# EAGLE library part NRF24L01P-R7 (library NRF24L01P-R7)
NORDIC SEMICONDUCTOR - NRF24L01P-R7 - RF TRANSCEIVER, 2MBPS, 2.525GHZ, QFN-20 Source: Datasheet <https://www.mouser.com/ds/2/297/nRF24L01P-1187709.pdf>
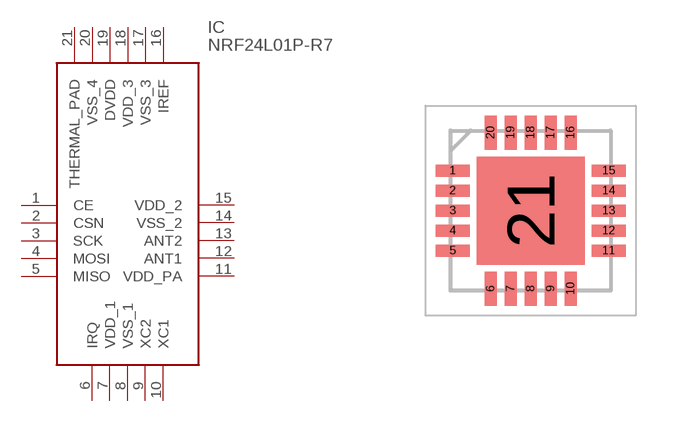
[diagram p0: symbol with the pads of QFN50P400X400X95-21N; footprint QFN50P400X400X95-21N]

Designator prefix IC

## NRF24L01P-R7 (Arrow_Part_Number: NRF24L01P-R7; Arrow_Price-Stock: https://www.arrow.com/en/products/nrf24l01p-r7/nordic-semiconductor?region=nac; Description: NORDIC SEMICONDUCTOR - NRF24L01P-R7 - RF TRANSCEIVER, 2MBPS, 2.525GHZ, QFN-20; Height: 0.95mm; Manufacturer_Name: Nordic Semiconductor; Manufacturer_Part_Number: NRF24L01P-R7; Mouser_Part_Number: 949-NRF24L01P-R7; Mouser_Price-Stock: https://www.mouser.co.uk/ProductDetail/Nordic-Semiconductor/nRF24L01P-R7?qs=yd0qOhnSiDe8zMRXiZkGiQ%3D%3D)  [QFN50P400X400X95-21N]
1  CE
2  CSN
3  SCK
4  MOSI
5  MISO
6  IRQ
7  VDD_1
8  VSS_1
9  XC2
10  XC1
11  VDD_PA
12  ANT1
13  ANT2
14  VSS_2
15  VDD_2
16  IREF
17  VSS_3
18  VDD_3
19  DVDD
20  VSS_4
21  THERMAL_PAD

## Footprint QFN50P400X400X95-21N (pad centres in mm)
Saw QFN20 (4x4 mm)
smd 0.85 x 0.3: 1 -1.95,1; 2 -1.95,0.5; 3 -1.95,0; 4 -1.95,-0.5; 5 -1.95,-1; 11 1.95,-1; 12 1.95,-0.5; 13 1.95,0; 14 1.95,0.5; 15 1.95,1
smd 0.3 x 0.85: 6 -1,-1.95; 7 -0.5,-1.95; 8 0,-1.95; 9 0.5,-1.95; 10 1,-1.95; 16 1,1.95; 17 0.5,1.95; 18 0,1.95; 19 -0.5,1.95; 20 -1,1.95
smd 2.7 x 2.7: 21 0,0